# EAGLE library part AD8607 (library novaXR)
Precision Micropower, Low Noise CMOS, Rail-to-Rail Input/Output Operational Amplifiers https://www.analog.com/media/en/technical-documentation/data-sheets/AD8603_8607_8609.pdf
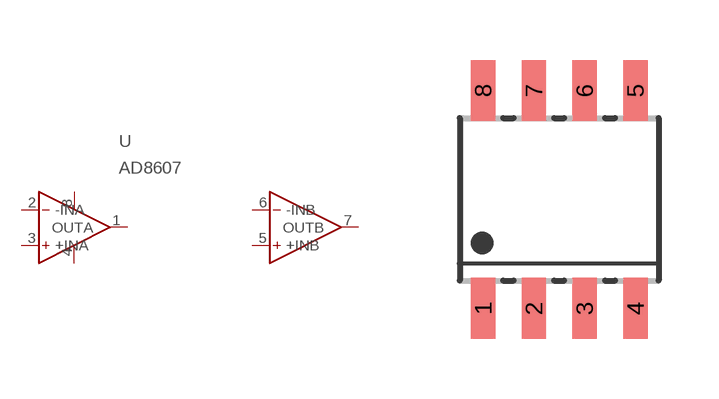
[diagram p2: symbol with the pads of 8-SOIC; footprint 8-SOIC]

Designator prefix -

## AD8607  [8-SOIC]
1  OUTA  out
2  -INA  in
3  +INA  in
4  V-
5  +INB  in
6  -INB  in
7  OUTB  out
8  V+

## Footprint 8-SOIC (pad centres in mm)
smd 0.61 x 1.52: 1 -1.905,-2.723; 2 -0.635,-2.723; 3 0.635,-2.723; 4 1.905,-2.723; 5 1.905,2.723; 6 0.635,2.723; 7 -0.635,2.723; 8 -1.905,2.723